# EAGLE library part CONN_2X3_TH (library Hippo-PS)
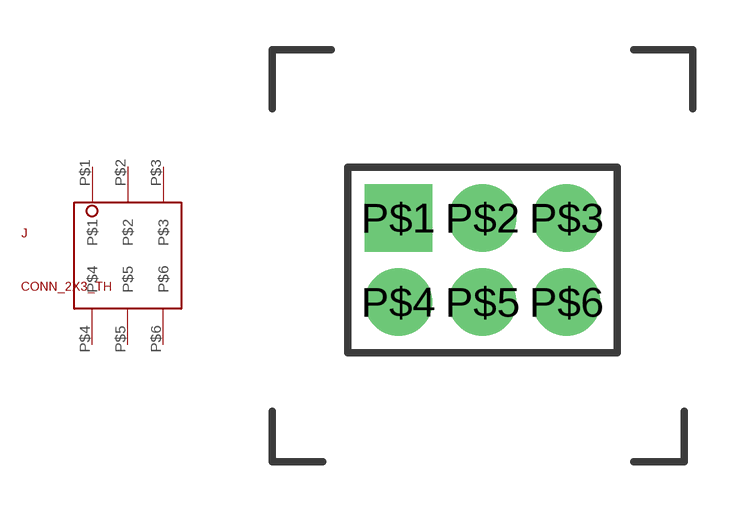
[diagram p0: symbol with the pads of CONNECTOR-2X3; footprint CONNECTOR-2X3]

Designator prefix J

## CONN_2X3_TH  [CONNECTOR-2X3]
P$1  P$1
P$2  P$2
P$3  P$3
P$4  P$4
P$5  P$5
P$6  P$6

## Footprint CONNECTOR-2X3 (pad centres in mm)
drill 1.016 pad 2.032 square: P$1 -2.54,1.27
drill 1.016 pad 2.032: P$2 0,1.27; P$3 2.54,1.27; P$4 -2.54,-1.27; P$5 0,-1.27; P$6 2.54,-1.27